# Altium schematic symbol library SST26VF016B.Schlib: 1 symbol
Pins are listed as number, name and electrical type; pins without a type are passive.

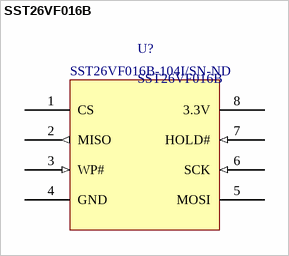
[diagram p0: symbol SST26VF016B]

## SST26VF016B
designator U?  Supplier Part Number 1: SST26VF016B-104I/SN-ND
2.5V/3.0V 16 Mbit Serial Quad I/O (SQI) Flash Memory; ComponentLink1Description: SST25VF016B; ComponentLink1URL: https://www.digikey.ca/product-detail/en/microchip-technology/SST26VF016B-104I-SN/SST26VF016B-104I-SN-ND/5033651; Supplier 1: Digi-Key
footprint SOIC127P500X600-8N
pins: 1 CS, 2 MISO (out), 3 WP# (in), 4 GND (power), 5 MOSI, 6 SCK (in), 7 HOLD# (in), 8 3.3V (power)